# Altium footprint library Header_127.PcbLib: 60 footprints (part 2 of 6)
Each footprint in its own frame and in the unit in brackets; x right, y up, seen from the top. Pads: shape width x height; smd on the part's side, far side on the other; paste and mask are expansions set on the pad; w line width, h text height; cw(c..) or ccw(c..) is an arc to the next point about the centre after c.
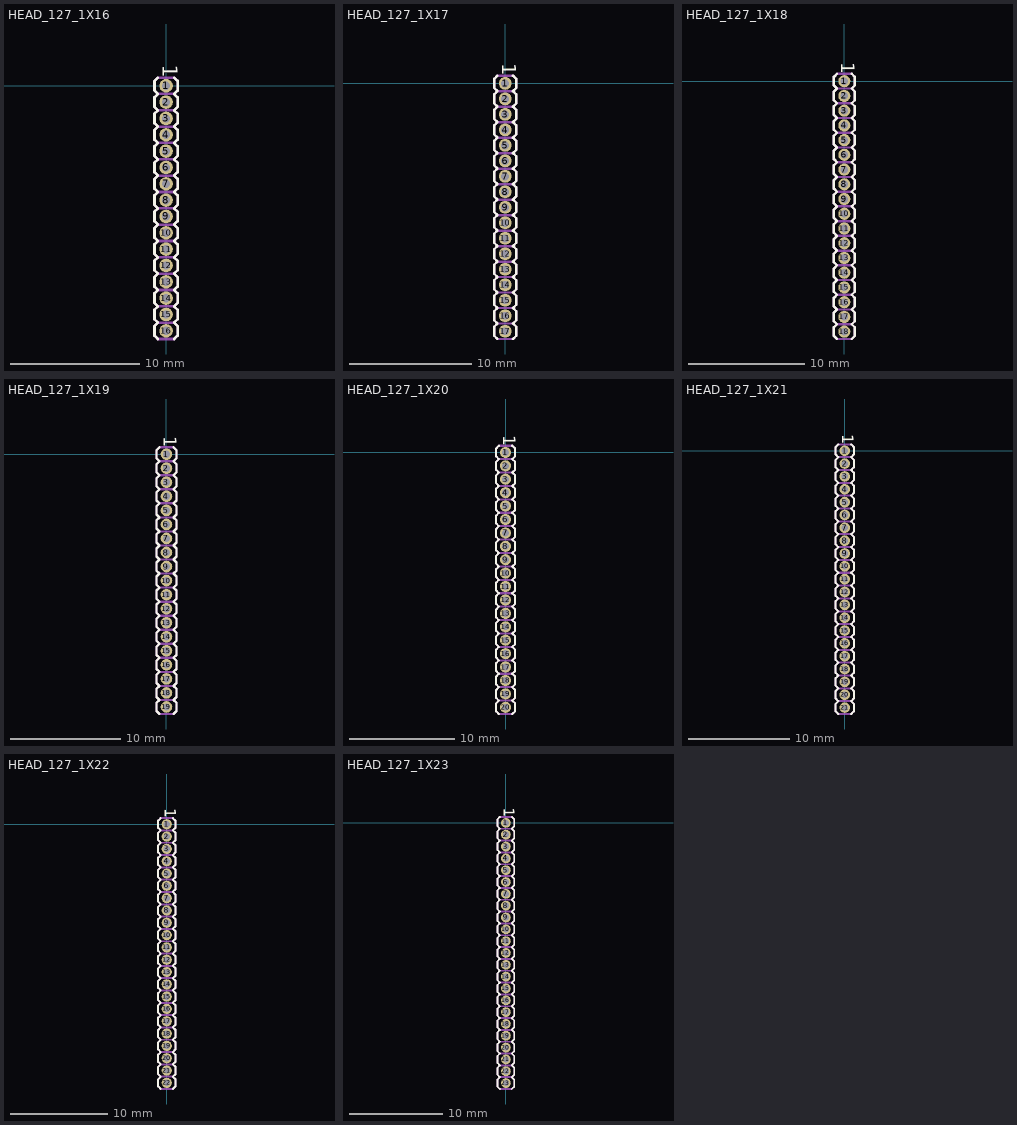
[diagram p1: the footprints below, top view; thin cyan lines are the x and y axes]

## HEAD_127_1X16 [mm] "Header 1.27mm 1x16"
pads (16):
  round 1.05 hole 0.65: 1(0,0) 2(0,-1.27) 3(0,-2.54) 4(0,-3.81) 5(0,-5.08) 6(0,-6.35) 7(0,-7.62) 8(0,-8.89) 9(0,-10.16) 10(0,-11.43) 11(0,-12.7) 12(0,-13.97) 13(0,-15.24) 14(0,-16.51) 15(0,-17.78) 16(0,-19.05)
Top Overlay:
  lines w0.2: -0.635,-19.685 -0.9,-19.42 -0.9,-18.68 -0.635,-18.415 -0.9,-18.15 -0.9,-17.41 -0.635,-17.145 -0.9,-16.88 -0.9,-16.14 -0.635,-15.875 -0.9,-15.61 -0.9,-14.87 -0.635,-14.605 -0.9,-14.34 -0.9,-13.6 -0.635,-13.335 -0.9,-13.07 -0.9,-12.33 -0.635,-12.065 -0.9,-11.8 -0.9,-11.06 -0.635,-10.795 -0.9,-10.53 -0.9,-9.79 -0.635,-9.525 -0.9,-9.26 -0.9,-8.52 -0.635,-8.255 -0.9,-7.99 -0.9,-7.25 -0.635,-6.985 -0.9,-6.72 -0.9,-5.98 -0.635,-5.715 -0.9,-5.45 -0.9,-4.71 -0.635,-4.445 -0.9,-4.18 -0.9,-3.44 -0.635,-3.175 -0.9,-2.91 -0.9,-2.17 -0.635,-1.905 -0.9,-1.64 -0.9,-0.9 -0.635,-0.635 -0.9,-0.37 -0.9,0.37 -0.635,0.635 ; 0.635,-19.685 0.9,-19.42 0.9,-18.68 0.635,-18.415 0.9,-18.15 0.9,-17.41 0.635,-17.145 0.9,-16.88 0.9,-16.14 0.635,-15.875 0.9,-15.61 0.9,-14.87 0.635,-14.605 0.9,-14.34 0.9,-13.6 0.635,-13.335 0.9,-13.07 0.9,-12.33 0.635,-12.065 0.9,-11.8 0.9,-11.06 0.635,-10.795 0.9,-10.53 0.9,-9.79 0.635,-9.525 0.9,-9.26 0.9,-8.52 0.635,-8.255 0.9,-7.99 0.9,-7.25 0.635,-6.985 0.9,-6.72 0.9,-5.98 0.635,-5.715 0.9,-5.45 0.9,-4.71 0.635,-4.445 0.9,-4.18 0.9,-3.44 0.635,-3.175 0.9,-2.91 0.9,-2.17 0.635,-1.905 0.9,-1.64 0.9,-0.9 0.635,-0.635 0.9,-0.37 0.9,0.37 0.635,0.635
  text "1" at -0.642,1.636 h2
Bottom Overlay:
  text "1" at -0.642,0.864 h2
Top Assembly:
  lines w0.2: -0.635,-18.415 -0.9,-18.68 -0.9,-19.42 -0.635,-19.685 0.635,-19.685 0.9,-19.42 0.9,-18.68 0.635,-18.415 ; -0.635,-18.415 -0.9,-18.15 -0.9,-17.41 -0.635,-17.145 ; -0.635,-18.415 0.635,-18.415 ; -0.635,-17.145 -0.9,-16.88 -0.9,-16.14 -0.635,-15.875 ; -0.635,-17.145 0.635,-17.145 ; -0.635,-15.875 -0.9,-15.61 -0.9,-14.87 -0.635,-14.605 ; -0.635,-15.875 0.635,-15.875 ; -0.635,-14.605 -0.9,-14.34 -0.9,-13.6 -0.635,-13.335 ; -0.635,-14.605 0.635,-14.605 ; -0.635,-13.335 -0.9,-13.07 -0.9,-12.33 -0.635,-12.065 ; -0.635,-13.335 0.635,-13.335 ; -0.635,-12.065 -0.9,-11.8 -0.9,-11.06 -0.635,-10.795 ; -0.635,-12.065 0.635,-12.065 ; -0.635,-10.795 -0.9,-10.53 -0.9,-9.79 -0.635,-9.525 ; -0.635,-10.795 0.635,-10.795 ; -0.635,-9.525 -0.9,-9.26 -0.9,-8.52 -0.635,-8.255 ; -0.635,-9.525 0.635,-9.525 ; -0.635,-8.255 0.635,-8.255 ; -0.635,-8.255 -0.9,-7.99 -0.9,-7.25 -0.635,-6.985 ; -0.635,-8.255 0.635,-8.255 ; -0.635,-6.985 0.635,-6.985 ; -0.635,-6.985 -0.9,-6.72 -0.9,-5.98 -0.635,-5.715 ; -0.635,-6.985 0.635,-6.985 ; -0.635,-5.715 0.635,-5.715 ; -0.635,-5.715 -0.9,-5.45 -0.9,-4.71 -0.635,-4.445 ; -0.635,-5.715 0.635,-5.715 ; -0.635,-4.445 0.635,-4.445 ; -0.635,-4.445 -0.9,-4.18 -0.9,-3.44 -0.635,-3.175 ; -0.635,-4.445 0.635,-4.445 ; -0.635,-3.175 0.635,-3.175 ; -0.635,-3.175 -0.9,-2.91 -0.9,-2.17 -0.635,-1.905 ; -0.635,-3.175 0.635,-3.175 ; -0.635,-1.905 0.635,-1.905 ; -0.635,-1.905 -0.9,-1.64 -0.9,-0.9 -0.635,-0.635 ; -0.635,-1.905 0.635,-1.905 ; -0.635,-0.635 0.635,-0.635 ; -0.635,-0.635 -0.9,-0.37 -0.9,0.37 -0.635,0.635 0.635,0.635 0.9,0.37 0.9,-0.37 0.635,-0.635 ; -0.635,-0.635 0.635,-0.635 ; 0.635,-18.415 0.9,-18.15 0.9,-17.41 0.635,-17.145 ; 0.635,-17.145 0.9,-16.88 0.9,-16.14 0.635,-15.875 ; 0.635,-15.875 0.9,-15.61 0.9,-14.87 0.635,-14.605 ; 0.635,-14.605 0.9,-14.34 0.9,-13.6 0.635,-13.335 ; 0.635,-13.335 0.9,-13.07 0.9,-12.33 0.635,-12.065 ; 0.635,-12.065 0.9,-11.8 0.9,-11.06 0.635,-10.795 ; 0.635,-10.795 0.9,-10.53 0.9,-9.79 0.635,-9.525 ; 0.635,-9.525 0.9,-9.26 0.9,-8.52 0.635,-8.255 ; 0.635,-8.255 0.9,-7.99 0.9,-7.25 0.635,-6.985 ; 0.635,-6.985 0.9,-6.72 0.9,-5.98 0.635,-5.715 ; 0.635,-5.715 0.9,-5.45 0.9,-4.71 0.635,-4.445 ; 0.635,-4.445 0.9,-4.18 0.9,-3.44 0.635,-3.175 ; 0.635,-3.175 0.9,-2.91 0.9,-2.17 0.635,-1.905 ; 0.635,-1.905 0.9,-1.64 0.9,-0.9 0.635,-0.635
3D body: height 2, standoff 0, extent -0.9,-19.685 0.9,-18.415
3D body: height 10, standoff -3, extent -0.2,-19.25 0.2,-18.85
3D body: height 2, standoff 0, extent -0.9,-18.415 0.9,-17.145
3D body: height 10, standoff -3, extent -0.2,-17.98 0.2,-17.58
3D body: height 2, standoff 0, extent -0.9,-17.145 0.9,-15.875
3D body: height 10, standoff -3, extent -0.2,-16.71 0.2,-16.31
3D body: height 2, standoff 0, extent -0.9,-15.875 0.9,-14.605
3D body: height 10, standoff -3, extent -0.2,-15.44 0.2,-15.04
3D body: height 2, standoff 0, extent -0.9,-14.605 0.9,-13.335
3D body: height 10, standoff -3, extent -0.2,-14.17 0.2,-13.77
3D body: height 2, standoff 0, extent -0.9,-13.335 0.9,-12.065
3D body: height 10, standoff -3, extent -0.2,-12.9 0.2,-12.5
3D body: height 2, standoff 0, extent -0.9,-12.065 0.9,-10.795
3D body: height 10, standoff -3, extent -0.2,-11.63 0.2,-11.23
3D body: height 10, standoff -3, extent -0.2,-0.2 0.2,0.2
3D body: height 2, standoff 0, extent -0.9,-0.635 0.9,0.635
3D body: height 10, standoff -3, extent -0.2,-1.47 0.2,-1.07
3D body: height 2, standoff 0, extent -0.9,-1.905 0.9,-0.635
3D body: height 10, standoff -3, extent -0.2,-2.74 0.2,-2.34
3D body: height 2, standoff 0, extent -0.9,-3.175 0.9,-1.905
3D body: height 10, standoff -3, extent -0.2,-4.01 0.2,-3.61
3D body: height 2, standoff 0, extent -0.9,-4.445 0.9,-3.175
3D body: height 10, standoff -3, extent -0.2,-5.28 0.2,-4.88
3D body: height 2, standoff 0, extent -0.9,-5.715 0.9,-4.445
3D body: height 10, standoff -3, extent -0.2,-6.55 0.2,-6.15
3D body: height 2, standoff 0, extent -0.9,-6.985 0.9,-5.715
3D body: height 10, standoff -3, extent -0.2,-7.82 0.2,-7.42
3D body: height 2, standoff 0, extent -0.9,-8.255 0.9,-6.985
3D body: height 2, standoff 0, extent -0.9,-9.525 0.9,-8.255
3D body: height 10, standoff -3, extent -0.2,-9.09 0.2,-8.69
3D body: height 2, standoff 0, extent -0.9,-10.795 0.9,-9.525
3D body: height 10, standoff -3, extent -0.2,-10.36 0.2,-9.96

## HEAD_127_1X17 [mm] "Header 1.27mm 1x17"
pads (17):
  round 1.05 hole 0.65: 1(0,0) 2(0,-1.27) 3(0,-2.54) 4(0,-3.81) 5(0,-5.08) 6(0,-6.35) 7(0,-7.62) 8(0,-8.89) 9(0,-10.16) 10(0,-11.43) 11(0,-12.7) 12(0,-13.97) 13(0,-15.24) 14(0,-16.51) 15(0,-17.78) 16(0,-19.05) 17(0,-20.32)
Top Overlay:
  lines w0.2: -0.635,-20.955 -0.9,-20.69 -0.9,-19.95 -0.635,-19.685 -0.9,-19.42 -0.9,-18.68 -0.635,-18.415 -0.9,-18.15 -0.9,-17.41 -0.635,-17.145 -0.9,-16.88 -0.9,-16.14 -0.635,-15.875 -0.9,-15.61 -0.9,-14.87 -0.635,-14.605 -0.9,-14.34 -0.9,-13.6 -0.635,-13.335 -0.9,-13.07 -0.9,-12.33 -0.635,-12.065 -0.9,-11.8 -0.9,-11.06 -0.635,-10.795 -0.9,-10.53 -0.9,-9.79 -0.635,-9.525 -0.9,-9.26 -0.9,-8.52 -0.635,-8.255 -0.9,-7.99 -0.9,-7.25 -0.635,-6.985 -0.9,-6.72 -0.9,-5.98 -0.635,-5.715 -0.9,-5.45 -0.9,-4.71 -0.635,-4.445 -0.9,-4.18 -0.9,-3.44 -0.635,-3.175 -0.9,-2.91 -0.9,-2.17 -0.635,-1.905 -0.9,-1.64 -0.9,-0.9 -0.635,-0.635 -0.9,-0.37 -0.9,0.37 -0.635,0.635 ; 0.635,-20.955 0.9,-20.69 0.9,-19.95 0.635,-19.685 0.9,-19.42 0.9,-18.68 0.635,-18.415 0.9,-18.15 0.9,-17.41 0.635,-17.145 0.9,-16.88 0.9,-16.14 0.635,-15.875 0.9,-15.61 0.9,-14.87 0.635,-14.605 0.9,-14.34 0.9,-13.6 0.635,-13.335 0.9,-13.07 0.9,-12.33 0.635,-12.065 0.9,-11.8 0.9,-11.06 0.635,-10.795 0.9,-10.53 0.9,-9.79 0.635,-9.525 0.9,-9.26 0.9,-8.52 0.635,-8.255 0.9,-7.99 0.9,-7.25 0.635,-6.985 0.9,-6.72 0.9,-5.98 0.635,-5.715 0.9,-5.45 0.9,-4.71 0.635,-4.445 0.9,-4.18 0.9,-3.44 0.635,-3.175 0.9,-2.91 0.9,-2.17 0.635,-1.905 0.9,-1.64 0.9,-0.9 0.635,-0.635 0.9,-0.37 0.9,0.37 0.635,0.635
  text "1" at -0.642,1.636 h2
Bottom Overlay:
  text "1" at -0.642,0.864 h2
Top Assembly:
  lines w0.2: -0.635,-19.685 -0.9,-19.95 -0.9,-20.69 -0.635,-20.955 0.635,-20.955 0.9,-20.69 0.9,-19.95 0.635,-19.685 ; -0.635,-19.685 -0.9,-19.42 -0.9,-18.68 -0.635,-18.415 ; -0.635,-19.685 0.635,-19.685 ; -0.635,-18.415 -0.9,-18.15 -0.9,-17.41 -0.635,-17.145 ; -0.635,-18.415 0.635,-18.415 ; -0.635,-17.145 -0.9,-16.88 -0.9,-16.14 -0.635,-15.875 ; -0.635,-17.145 0.635,-17.145 ; -0.635,-15.875 -0.9,-15.61 -0.9,-14.87 -0.635,-14.605 ; -0.635,-15.875 0.635,-15.875 ; -0.635,-14.605 -0.9,-14.34 -0.9,-13.6 -0.635,-13.335 ; -0.635,-14.605 0.635,-14.605 ; -0.635,-13.335 -0.9,-13.07 -0.9,-12.33 -0.635,-12.065 ; -0.635,-13.335 0.635,-13.335 ; -0.635,-12.065 -0.9,-11.8 -0.9,-11.06 -0.635,-10.795 ; -0.635,-12.065 0.635,-12.065 ; -0.635,-10.795 -0.9,-10.53 -0.9,-9.79 -0.635,-9.525 ; -0.635,-10.795 0.635,-10.795 ; -0.635,-9.525 -0.9,-9.26 -0.9,-8.52 -0.635,-8.255 ; -0.635,-9.525 0.635,-9.525 ; -0.635,-8.255 0.635,-8.255 ; -0.635,-8.255 -0.9,-7.99 -0.9,-7.25 -0.635,-6.985 ; -0.635,-8.255 0.635,-8.255 ; -0.635,-6.985 0.635,-6.985 ; -0.635,-6.985 -0.9,-6.72 -0.9,-5.98 -0.635,-5.715 ; -0.635,-6.985 0.635,-6.985 ; -0.635,-5.715 0.635,-5.715 ; -0.635,-5.715 -0.9,-5.45 -0.9,-4.71 -0.635,-4.445 ; -0.635,-5.715 0.635,-5.715 ; -0.635,-4.445 0.635,-4.445 ; -0.635,-4.445 -0.9,-4.18 -0.9,-3.44 -0.635,-3.175 ; -0.635,-4.445 0.635,-4.445 ; -0.635,-3.175 0.635,-3.175 ; -0.635,-3.175 -0.9,-2.91 -0.9,-2.17 -0.635,-1.905 ; -0.635,-3.175 0.635,-3.175 ; -0.635,-1.905 0.635,-1.905 ; -0.635,-1.905 -0.9,-1.64 -0.9,-0.9 -0.635,-0.635 ; -0.635,-1.905 0.635,-1.905 ; -0.635,-0.635 0.635,-0.635 ; -0.635,-0.635 -0.9,-0.37 -0.9,0.37 -0.635,0.635 0.635,0.635 0.9,0.37 0.9,-0.37 0.635,-0.635 ; -0.635,-0.635 0.635,-0.635 ; 0.635,-19.685 0.9,-19.42 0.9,-18.68 0.635,-18.415 ; 0.635,-18.415 0.9,-18.15 0.9,-17.41 0.635,-17.145 ; 0.635,-17.145 0.9,-16.88 0.9,-16.14 0.635,-15.875 ; 0.635,-15.875 0.9,-15.61 0.9,-14.87 0.635,-14.605 ; 0.635,-14.605 0.9,-14.34 0.9,-13.6 0.635,-13.335 ; 0.635,-13.335 0.9,-13.07 0.9,-12.33 0.635,-12.065 ; 0.635,-12.065 0.9,-11.8 0.9,-11.06 0.635,-10.795 ; 0.635,-10.795 0.9,-10.53 0.9,-9.79 0.635,-9.525 ; 0.635,-9.525 0.9,-9.26 0.9,-8.52 0.635,-8.255 ; 0.635,-8.255 0.9,-7.99 0.9,-7.25 0.635,-6.985 ; 0.635,-6.985 0.9,-6.72 0.9,-5.98 0.635,-5.715 ; 0.635,-5.715 0.9,-5.45 0.9,-4.71 0.635,-4.445 ; 0.635,-4.445 0.9,-4.18 0.9,-3.44 0.635,-3.175 ; 0.635,-3.175 0.9,-2.91 0.9,-2.17 0.635,-1.905 ; 0.635,-1.905 0.9,-1.64 0.9,-0.9 0.635,-0.635
3D body: height 2, standoff 0, extent -0.9,-20.955 0.9,-19.685
3D body: height 10, standoff -3, extent -0.2,-20.52 0.2,-20.12
3D body: height 2, standoff 0, extent -0.9,-19.685 0.9,-18.415
3D body: height 10, standoff -3, extent -0.2,-19.25 0.2,-18.85
3D body: height 2, standoff 0, extent -0.9,-18.415 0.9,-17.145
3D body: height 10, standoff -3, extent -0.2,-17.98 0.2,-17.58
3D body: height 2, standoff 0, extent -0.9,-17.145 0.9,-15.875
3D body: height 10, standoff -3, extent -0.2,-16.71 0.2,-16.31
3D body: height 2, standoff 0, extent -0.9,-15.875 0.9,-14.605
3D body: height 10, standoff -3, extent -0.2,-15.44 0.2,-15.04
3D body: height 2, standoff 0, extent -0.9,-14.605 0.9,-13.335
3D body: height 10, standoff -3, extent -0.2,-14.17 0.2,-13.77
3D body: height 2, standoff 0, extent -0.9,-13.335 0.9,-12.065
3D body: height 10, standoff -3, extent -0.2,-12.9 0.2,-12.5
3D body: height 2, standoff 0, extent -0.9,-12.065 0.9,-10.795
3D body: height 10, standoff -3, extent -0.2,-11.63 0.2,-11.23
3D body: height 10, standoff -3, extent -0.2,-0.2 0.2,0.2
3D body: height 2, standoff 0, extent -0.9,-0.635 0.9,0.635
3D body: height 10, standoff -3, extent -0.2,-1.47 0.2,-1.07
3D body: height 2, standoff 0, extent -0.9,-1.905 0.9,-0.635
3D body: height 10, standoff -3, extent -0.2,-2.74 0.2,-2.34
3D body: height 2, standoff 0, extent -0.9,-3.175 0.9,-1.905
3D body: height 10, standoff -3, extent -0.2,-4.01 0.2,-3.61
3D body: height 2, standoff 0, extent -0.9,-4.445 0.9,-3.175
3D body: height 10, standoff -3, extent -0.2,-5.28 0.2,-4.88
3D body: height 2, standoff 0, extent -0.9,-5.715 0.9,-4.445
3D body: height 10, standoff -3, extent -0.2,-6.55 0.2,-6.15
3D body: height 2, standoff 0, extent -0.9,-6.985 0.9,-5.715
3D body: height 10, standoff -3, extent -0.2,-7.82 0.2,-7.42
3D body: height 2, standoff 0, extent -0.9,-8.255 0.9,-6.985
3D body: height 2, standoff 0, extent -0.9,-9.525 0.9,-8.255
3D body: height 10, standoff -3, extent -0.2,-9.09 0.2,-8.69
3D body: height 2, standoff 0, extent -0.9,-10.795 0.9,-9.525
3D body: height 10, standoff -3, extent -0.2,-10.36 0.2,-9.96

## HEAD_127_1X18 [mm] "Header 1.27mm 1x18"
pads (18):
  round 1.05 hole 0.65: 1(0,0) 2(0,-1.27) 3(0,-2.54) 4(0,-3.81) 5(0,-5.08) 6(0,-6.35) 7(0,-7.62) 8(0,-8.89) 9(0,-10.16) 10(0,-11.43) 11(0,-12.7) 12(0,-13.97) 13(0,-15.24) 14(0,-16.51) 15(0,-17.78) 16(0,-19.05) 17(0,-20.32) 18(0,-21.59)
Top Overlay:
  lines w0.2: -0.635,-22.225 -0.9,-21.96 -0.9,-21.22 -0.635,-20.955 -0.9,-20.69 -0.9,-19.95 -0.635,-19.685 -0.9,-19.42 -0.9,-18.68 -0.635,-18.415 -0.9,-18.15 -0.9,-17.41 -0.635,-17.145 -0.9,-16.88 -0.9,-16.14 -0.635,-15.875 -0.9,-15.61 -0.9,-14.87 -0.635,-14.605 -0.9,-14.34 -0.9,-13.6 -0.635,-13.335 -0.9,-13.07 -0.9,-12.33 -0.635,-12.065 -0.9,-11.8 -0.9,-11.06 -0.635,-10.795 -0.9,-10.53 -0.9,-9.79 -0.635,-9.525 -0.9,-9.26 -0.9,-8.52 -0.635,-8.255 -0.9,-7.99 -0.9,-7.25 -0.635,-6.985 -0.9,-6.72 -0.9,-5.98 -0.635,-5.715 -0.9,-5.45 -0.9,-4.71 -0.635,-4.445 -0.9,-4.18 -0.9,-3.44 -0.635,-3.175 -0.9,-2.91 -0.9,-2.17 -0.635,-1.905 -0.9,-1.64 -0.9,-0.9 -0.635,-0.635 -0.9,-0.37 -0.9,0.37 -0.635,0.635 ; 0.635,-22.225 0.9,-21.96 0.9,-21.22 0.635,-20.955 0.9,-20.69 0.9,-19.95 0.635,-19.685 0.9,-19.42 0.9,-18.68 0.635,-18.415 0.9,-18.15 0.9,-17.41 0.635,-17.145 0.9,-16.88 0.9,-16.14 0.635,-15.875 0.9,-15.61 0.9,-14.87 0.635,-14.605 0.9,-14.34 0.9,-13.6 0.635,-13.335 0.9,-13.07 0.9,-12.33 0.635,-12.065 0.9,-11.8 0.9,-11.06 0.635,-10.795 0.9,-10.53 0.9,-9.79 0.635,-9.525 0.9,-9.26 0.9,-8.52 0.635,-8.255 0.9,-7.99 0.9,-7.25 0.635,-6.985 0.9,-6.72 0.9,-5.98 0.635,-5.715 0.9,-5.45 0.9,-4.71 0.635,-4.445 0.9,-4.18 0.9,-3.44 0.635,-3.175 0.9,-2.91 0.9,-2.17 0.635,-1.905 0.9,-1.64 0.9,-0.9 0.635,-0.635 0.9,-0.37 0.9,0.37 0.635,0.635
  text "1" at -0.642,1.636 h2
Bottom Overlay:
  text "1" at -0.642,0.864 h2
Top Assembly:
  lines w0.2: -0.635,-20.955 -0.9,-21.22 -0.9,-21.96 -0.635,-22.225 0.635,-22.225 0.9,-21.96 0.9,-21.22 0.635,-20.955 ; -0.635,-20.955 -0.9,-20.69 -0.9,-19.95 -0.635,-19.685 ; -0.635,-20.955 0.635,-20.955 ; -0.635,-19.685 -0.9,-19.42 -0.9,-18.68 -0.635,-18.415 ; -0.635,-19.685 0.635,-19.685 ; -0.635,-18.415 -0.9,-18.15 -0.9,-17.41 -0.635,-17.145 ; -0.635,-18.415 0.635,-18.415 ; -0.635,-17.145 -0.9,-16.88 -0.9,-16.14 -0.635,-15.875 ; -0.635,-17.145 0.635,-17.145 ; -0.635,-15.875 -0.9,-15.61 -0.9,-14.87 -0.635,-14.605 ; -0.635,-15.875 0.635,-15.875 ; -0.635,-14.605 -0.9,-14.34 -0.9,-13.6 -0.635,-13.335 ; -0.635,-14.605 0.635,-14.605 ; -0.635,-13.335 -0.9,-13.07 -0.9,-12.33 -0.635,-12.065 ; -0.635,-13.335 0.635,-13.335 ; -0.635,-12.065 -0.9,-11.8 -0.9,-11.06 -0.635,-10.795 ; -0.635,-12.065 0.635,-12.065 ; -0.635,-10.795 -0.9,-10.53 -0.9,-9.79 -0.635,-9.525 ; -0.635,-10.795 0.635,-10.795 ; -0.635,-9.525 -0.9,-9.26 -0.9,-8.52 -0.635,-8.255 ; -0.635,-9.525 0.635,-9.525 ; -0.635,-8.255 0.635,-8.255 ; -0.635,-8.255 -0.9,-7.99 -0.9,-7.25 -0.635,-6.985 ; -0.635,-8.255 0.635,-8.255 ; -0.635,-6.985 0.635,-6.985 ; -0.635,-6.985 -0.9,-6.72 -0.9,-5.98 -0.635,-5.715 ; -0.635,-6.985 0.635,-6.985 ; -0.635,-5.715 0.635,-5.715 ; -0.635,-5.715 -0.9,-5.45 -0.9,-4.71 -0.635,-4.445 ; -0.635,-5.715 0.635,-5.715 ; -0.635,-4.445 0.635,-4.445 ; -0.635,-4.445 -0.9,-4.18 -0.9,-3.44 -0.635,-3.175 ; -0.635,-4.445 0.635,-4.445 ; -0.635,-3.175 0.635,-3.175 ; -0.635,-3.175 -0.9,-2.91 -0.9,-2.17 -0.635,-1.905 ; -0.635,-3.175 0.635,-3.175 ; -0.635,-1.905 0.635,-1.905 ; -0.635,-1.905 -0.9,-1.64 -0.9,-0.9 -0.635,-0.635 ; -0.635,-1.905 0.635,-1.905 ; -0.635,-0.635 0.635,-0.635 ; -0.635,-0.635 -0.9,-0.37 -0.9,0.37 -0.635,0.635 0.635,0.635 0.9,0.37 0.9,-0.37 0.635,-0.635 ; -0.635,-0.635 0.635,-0.635 ; 0.635,-20.955 0.9,-20.69 0.9,-19.95 0.635,-19.685 ; 0.635,-19.685 0.9,-19.42 0.9,-18.68 0.635,-18.415 ; 0.635,-18.415 0.9,-18.15 0.9,-17.41 0.635,-17.145 ; 0.635,-17.145 0.9,-16.88 0.9,-16.14 0.635,-15.875 ; 0.635,-15.875 0.9,-15.61 0.9,-14.87 0.635,-14.605 ; 0.635,-14.605 0.9,-14.34 0.9,-13.6 0.635,-13.335 ; 0.635,-13.335 0.9,-13.07 0.9,-12.33 0.635,-12.065 ; 0.635,-12.065 0.9,-11.8 0.9,-11.06 0.635,-10.795 ; 0.635,-10.795 0.9,-10.53 0.9,-9.79 0.635,-9.525 ; 0.635,-9.525 0.9,-9.26 0.9,-8.52 0.635,-8.255 ; 0.635,-8.255 0.9,-7.99 0.9,-7.25 0.635,-6.985 ; 0.635,-6.985 0.9,-6.72 0.9,-5.98 0.635,-5.715 ; 0.635,-5.715 0.9,-5.45 0.9,-4.71 0.635,-4.445 ; 0.635,-4.445 0.9,-4.18 0.9,-3.44 0.635,-3.175 ; 0.635,-3.175 0.9,-2.91 0.9,-2.17 0.635,-1.905 ; 0.635,-1.905 0.9,-1.64 0.9,-0.9 0.635,-0.635
3D body: height 2, standoff 0, extent -0.9,-22.225 0.9,-20.955
3D body: height 10, standoff -3, extent -0.2,-21.79 0.2,-21.39
3D body: height 2, standoff 0, extent -0.9,-20.955 0.9,-19.685
3D body: height 10, standoff -3, extent -0.2,-20.52 0.2,-20.12
3D body: height 2, standoff 0, extent -0.9,-19.685 0.9,-18.415
3D body: height 10, standoff -3, extent -0.2,-19.25 0.2,-18.85
3D body: height 2, standoff 0, extent -0.9,-18.415 0.9,-17.145
3D body: height 10, standoff -3, extent -0.2,-17.98 0.2,-17.58
3D body: height 2, standoff 0, extent -0.9,-17.145 0.9,-15.875
3D body: height 10, standoff -3, extent -0.2,-16.71 0.2,-16.31
3D body: height 2, standoff 0, extent -0.9,-15.875 0.9,-14.605
3D body: height 10, standoff -3, extent -0.2,-15.44 0.2,-15.04
3D body: height 2, standoff 0, extent -0.9,-14.605 0.9,-13.335
3D body: height 10, standoff -3, extent -0.2,-14.17 0.2,-13.77
3D body: height 2, standoff 0, extent -0.9,-13.335 0.9,-12.065
3D body: height 10, standoff -3, extent -0.2,-12.9 0.2,-12.5
3D body: height 2, standoff 0, extent -0.9,-12.065 0.9,-10.795
3D body: height 10, standoff -3, extent -0.2,-11.63 0.2,-11.23
3D body: height 10, standoff -3, extent -0.2,-0.2 0.2,0.2
3D body: height 2, standoff 0, extent -0.9,-0.635 0.9,0.635
3D body: height 10, standoff -3, extent -0.2,-1.47 0.2,-1.07
3D body: height 2, standoff 0, extent -0.9,-1.905 0.9,-0.635
3D body: height 10, standoff -3, extent -0.2,-2.74 0.2,-2.34
3D body: height 2, standoff 0, extent -0.9,-3.175 0.9,-1.905
3D body: height 10, standoff -3, extent -0.2,-4.01 0.2,-3.61
3D body: height 2, standoff 0, extent -0.9,-4.445 0.9,-3.175
3D body: height 10, standoff -3, extent -0.2,-5.28 0.2,-4.88
3D body: height 2, standoff 0, extent -0.9,-5.715 0.9,-4.445
3D body: height 10, standoff -3, extent -0.2,-6.55 0.2,-6.15
3D body: height 2, standoff 0, extent -0.9,-6.985 0.9,-5.715
3D body: height 10, standoff -3, extent -0.2,-7.82 0.2,-7.42
3D body: height 2, standoff 0, extent -0.9,-8.255 0.9,-6.985
3D body: height 2, standoff 0, extent -0.9,-9.525 0.9,-8.255
3D body: height 10, standoff -3, extent -0.2,-9.09 0.2,-8.69
3D body: height 2, standoff 0, extent -0.9,-10.795 0.9,-9.525
3D body: height 10, standoff -3, extent -0.2,-10.36 0.2,-9.96

## HEAD_127_1X19 [mm] "Header 1.27mm 1x19"
pads (19):
  round 1.05 hole 0.65: 1(0,0) 2(0,-1.27) 3(0,-2.54) 4(0,-3.81) 5(0,-5.08) 6(0,-6.35) 7(0,-7.62) 8(0,-8.89) 9(0,-10.16) 10(0,-11.43) 11(0,-12.7) 12(0,-13.97) 13(0,-15.24) 14(0,-16.51) 15(0,-17.78) 16(0,-19.05) 17(0,-20.32) 18(0,-21.59) 19(0,-22.86)
Top Overlay:
  lines w0.2: -0.635,-23.495 -0.9,-23.23 -0.9,-22.49 -0.635,-22.225 -0.9,-21.96 -0.9,-21.22 -0.635,-20.955 -0.9,-20.69 -0.9,-19.95 -0.635,-19.685 -0.9,-19.42 -0.9,-18.68 -0.635,-18.415 -0.9,-18.15 -0.9,-17.41 -0.635,-17.145 -0.9,-16.88 -0.9,-16.14 -0.635,-15.875 -0.9,-15.61 -0.9,-14.87 -0.635,-14.605 -0.9,-14.34 -0.9,-13.6 -0.635,-13.335 -0.9,-13.07 -0.9,-12.33 -0.635,-12.065 -0.9,-11.8 -0.9,-11.06 -0.635,-10.795 -0.9,-10.53 -0.9,-9.79 -0.635,-9.525 -0.9,-9.26 -0.9,-8.52 -0.635,-8.255 -0.9,-7.99 -0.9,-7.25 -0.635,-6.985 -0.9,-6.72 -0.9,-5.98 -0.635,-5.715 -0.9,-5.45 -0.9,-4.71 -0.635,-4.445 -0.9,-4.18 -0.9,-3.44 -0.635,-3.175 -0.9,-2.91 -0.9,-2.17 -0.635,-1.905 -0.9,-1.64 -0.9,-0.9 -0.635,-0.635 -0.9,-0.37 -0.9,0.37 -0.635,0.635 ; 0.635,-23.495 0.9,-23.23 0.9,-22.49 0.635,-22.225 0.9,-21.96 0.9,-21.22 0.635,-20.955 0.9,-20.69 0.9,-19.95 0.635,-19.685 0.9,-19.42 0.9,-18.68 0.635,-18.415 0.9,-18.15 0.9,-17.41 0.635,-17.145 0.9,-16.88 0.9,-16.14 0.635,-15.875 0.9,-15.61 0.9,-14.87 0.635,-14.605 0.9,-14.34 0.9,-13.6 0.635,-13.335 0.9,-13.07 0.9,-12.33 0.635,-12.065 0.9,-11.8 0.9,-11.06 0.635,-10.795 0.9,-10.53 0.9,-9.79 0.635,-9.525 0.9,-9.26 0.9,-8.52 0.635,-8.255 0.9,-7.99 0.9,-7.25 0.635,-6.985 0.9,-6.72 0.9,-5.98 0.635,-5.715 0.9,-5.45 0.9,-4.71 0.635,-4.445 0.9,-4.18 0.9,-3.44 0.635,-3.175 0.9,-2.91 0.9,-2.17 0.635,-1.905 0.9,-1.64 0.9,-0.9 0.635,-0.635 0.9,-0.37 0.9,0.37 0.635,0.635
  text "1" at -0.642,1.636 h2
Bottom Overlay:
  text "1" at -0.642,0.864 h2
Top Assembly:
  lines w0.2: -0.635,-22.225 -0.9,-22.49 -0.9,-23.23 -0.635,-23.495 0.635,-23.495 0.9,-23.23 0.9,-22.49 0.635,-22.225 ; -0.635,-22.225 -0.9,-21.96 -0.9,-21.22 -0.635,-20.955 ; -0.635,-22.225 0.635,-22.225 ; -0.635,-20.955 -0.9,-20.69 -0.9,-19.95 -0.635,-19.685 ; -0.635,-20.955 0.635,-20.955 ; -0.635,-19.685 -0.9,-19.42 -0.9,-18.68 -0.635,-18.415 ; -0.635,-19.685 0.635,-19.685 ; -0.635,-18.415 -0.9,-18.15 -0.9,-17.41 -0.635,-17.145 ; -0.635,-18.415 0.635,-18.415 ; -0.635,-17.145 -0.9,-16.88 -0.9,-16.14 -0.635,-15.875 ; -0.635,-17.145 0.635,-17.145 ; -0.635,-15.875 -0.9,-15.61 -0.9,-14.87 -0.635,-14.605 ; -0.635,-15.875 0.635,-15.875 ; -0.635,-14.605 -0.9,-14.34 -0.9,-13.6 -0.635,-13.335 ; -0.635,-14.605 0.635,-14.605 ; -0.635,-13.335 -0.9,-13.07 -0.9,-12.33 -0.635,-12.065 ; -0.635,-13.335 0.635,-13.335 ; -0.635,-12.065 -0.9,-11.8 -0.9,-11.06 -0.635,-10.795 ; -0.635,-12.065 0.635,-12.065 ; -0.635,-10.795 -0.9,-10.53 -0.9,-9.79 -0.635,-9.525 ; -0.635,-10.795 0.635,-10.795 ; -0.635,-9.525 -0.9,-9.26 -0.9,-8.52 -0.635,-8.255 ; -0.635,-9.525 0.635,-9.525 ; -0.635,-8.255 0.635,-8.255 ; -0.635,-8.255 -0.9,-7.99 -0.9,-7.25 -0.635,-6.985 ; -0.635,-8.255 0.635,-8.255 ; -0.635,-6.985 0.635,-6.985 ; -0.635,-6.985 -0.9,-6.72 -0.9,-5.98 -0.635,-5.715 ; -0.635,-6.985 0.635,-6.985 ; -0.635,-5.715 0.635,-5.715 ; -0.635,-5.715 -0.9,-5.45 -0.9,-4.71 -0.635,-4.445 ; -0.635,-5.715 0.635,-5.715 ; -0.635,-4.445 0.635,-4.445 ; -0.635,-4.445 -0.9,-4.18 -0.9,-3.44 -0.635,-3.175 ; -0.635,-4.445 0.635,-4.445 ; -0.635,-3.175 0.635,-3.175 ; -0.635,-3.175 -0.9,-2.91 -0.9,-2.17 -0.635,-1.905 ; -0.635,-3.175 0.635,-3.175 ; -0.635,-1.905 0.635,-1.905 ; -0.635,-1.905 -0.9,-1.64 -0.9,-0.9 -0.635,-0.635 ; -0.635,-1.905 0.635,-1.905 ; -0.635,-0.635 0.635,-0.635 ; -0.635,-0.635 -0.9,-0.37 -0.9,0.37 -0.635,0.635 0.635,0.635 0.9,0.37 0.9,-0.37 0.635,-0.635 ; -0.635,-0.635 0.635,-0.635 ; 0.635,-22.225 0.9,-21.96 0.9,-21.22 0.635,-20.955 ; 0.635,-20.955 0.9,-20.69 0.9,-19.95 0.635,-19.685 ; 0.635,-19.685 0.9,-19.42 0.9,-18.68 0.635,-18.415 ; 0.635,-18.415 0.9,-18.15 0.9,-17.41 0.635,-17.145 ; 0.635,-17.145 0.9,-16.88 0.9,-16.14 0.635,-15.875 ; 0.635,-15.875 0.9,-15.61 0.9,-14.87 0.635,-14.605 ; 0.635,-14.605 0.9,-14.34 0.9,-13.6 0.635,-13.335 ; 0.635,-13.335 0.9,-13.07 0.9,-12.33 0.635,-12.065 ; 0.635,-12.065 0.9,-11.8 0.9,-11.06 0.635,-10.795 ; 0.635,-10.795 0.9,-10.53 0.9,-9.79 0.635,-9.525 ; 0.635,-9.525 0.9,-9.26 0.9,-8.52 0.635,-8.255 ; 0.635,-8.255 0.9,-7.99 0.9,-7.25 0.635,-6.985 ; 0.635,-6.985 0.9,-6.72 0.9,-5.98 0.635,-5.715 ; 0.635,-5.715 0.9,-5.45 0.9,-4.71 0.635,-4.445 ; 0.635,-4.445 0.9,-4.18 0.9,-3.44 0.635,-3.175 ; 0.635,-3.175 0.9,-2.91 0.9,-2.17 0.635,-1.905 ; 0.635,-1.905 0.9,-1.64 0.9,-0.9 0.635,-0.635
3D body: height 2, standoff 0, extent -0.9,-23.495 0.9,-22.225
3D body: height 10, standoff -3, extent -0.2,-23.06 0.2,-22.66
3D body: height 2, standoff 0, extent -0.9,-22.225 0.9,-20.955
3D body: height 10, standoff -3, extent -0.2,-21.79 0.2,-21.39
3D body: height 2, standoff 0, extent -0.9,-20.955 0.9,-19.685
3D body: height 10, standoff -3, extent -0.2,-20.52 0.2,-20.12
3D body: height 2, standoff 0, extent -0.9,-19.685 0.9,-18.415
3D body: height 10, standoff -3, extent -0.2,-19.25 0.2,-18.85
3D body: height 2, standoff 0, extent -0.9,-18.415 0.9,-17.145
3D body: height 10, standoff -3, extent -0.2,-17.98 0.2,-17.58
3D body: height 2, standoff 0, extent -0.9,-17.145 0.9,-15.875
3D body: height 10, standoff -3, extent -0.2,-16.71 0.2,-16.31
3D body: height 2, standoff 0, extent -0.9,-15.875 0.9,-14.605
3D body: height 10, standoff -3, extent -0.2,-15.44 0.2,-15.04
3D body: height 2, standoff 0, extent -0.9,-14.605 0.9,-13.335
3D body: height 10, standoff -3, extent -0.2,-14.17 0.2,-13.77
3D body: height 2, standoff 0, extent -0.9,-13.335 0.9,-12.065
3D body: height 10, standoff -3, extent -0.2,-12.9 0.2,-12.5
3D body: height 2, standoff 0, extent -0.9,-12.065 0.9,-10.795
3D body: height 10, standoff -3, extent -0.2,-11.63 0.2,-11.23
3D body: height 10, standoff -3, extent -0.2,-0.2 0.2,0.2
3D body: height 2, standoff 0, extent -0.9,-0.635 0.9,0.635
3D body: height 10, standoff -3, extent -0.2,-1.47 0.2,-1.07
3D body: height 2, standoff 0, extent -0.9,-1.905 0.9,-0.635
3D body: height 10, standoff -3, extent -0.2,-2.74 0.2,-2.34
3D body: height 2, standoff 0, extent -0.9,-3.175 0.9,-1.905
3D body: height 10, standoff -3, extent -0.2,-4.01 0.2,-3.61
3D body: height 2, standoff 0, extent -0.9,-4.445 0.9,-3.175
3D body: height 10, standoff -3, extent -0.2,-5.28 0.2,-4.88
3D body: height 2, standoff 0, extent -0.9,-5.715 0.9,-4.445
3D body: height 10, standoff -3, extent -0.2,-6.55 0.2,-6.15
3D body: height 2, standoff 0, extent -0.9,-6.985 0.9,-5.715
3D body: height 10, standoff -3, extent -0.2,-7.82 0.2,-7.42
3D body: height 2, standoff 0, extent -0.9,-8.255 0.9,-6.985
3D body: height 2, standoff 0, extent -0.9,-9.525 0.9,-8.255
3D body: height 10, standoff -3, extent -0.2,-9.09 0.2,-8.69
3D body: height 2, standoff 0, extent -0.9,-10.795 0.9,-9.525
3D body: height 10, standoff -3, extent -0.2,-10.36 0.2,-9.96

## HEAD_127_1X20 [mm] "Header 1.27mm 1x20"
pads (20):
  round 1.05 hole 0.65: 1(0,0) 2(0,-1.27) 3(0,-2.54) 4(0,-3.81) 5(0,-5.08) 6(0,-6.35) 7(0,-7.62) 8(0,-8.89) 9(0,-10.16) 10(0,-11.43) 11(0,-12.7) 12(0,-13.97) 13(0,-15.24) 14(0,-16.51) 15(0,-17.78) 16(0,-19.05) 17(0,-20.32) 18(0,-21.59) 19(0,-22.86) 20(0,-24.13)
Top Overlay:
  lines w0.2: -0.635,-24.765 -0.9,-24.5 -0.9,-23.76 -0.635,-23.495 -0.9,-23.23 -0.9,-22.49 -0.635,-22.225 -0.9,-21.96 -0.9,-21.22 -0.635,-20.955 -0.9,-20.69 -0.9,-19.95 -0.635,-19.685 -0.9,-19.42 -0.9,-18.68 -0.635,-18.415 -0.9,-18.15 -0.9,-17.41 -0.635,-17.145 -0.9,-16.88 -0.9,-16.14 -0.635,-15.875 -0.9,-15.61 -0.9,-14.87 -0.635,-14.605 -0.9,-14.34 -0.9,-13.6 -0.635,-13.335 -0.9,-13.07 -0.9,-12.33 -0.635,-12.065 -0.9,-11.8 -0.9,-11.06 -0.635,-10.795 -0.9,-10.53 -0.9,-9.79 -0.635,-9.525 -0.9,-9.26 -0.9,-8.52 -0.635,-8.255 -0.9,-7.99 -0.9,-7.25 -0.635,-6.985 -0.9,-6.72 -0.9,-5.98 -0.635,-5.715 -0.9,-5.45 -0.9,-4.71 -0.635,-4.445 -0.9,-4.18 -0.9,-3.44 -0.635,-3.175 -0.9,-2.91 -0.9,-2.17 -0.635,-1.905 -0.9,-1.64 -0.9,-0.9 -0.635,-0.635 -0.9,-0.37 -0.9,0.37 -0.635,0.635 ; 0.635,-24.765 0.9,-24.5 0.9,-23.76 0.635,-23.495 0.9,-23.23 0.9,-22.49 0.635,-22.225 0.9,-21.96 0.9,-21.22 0.635,-20.955 0.9,-20.69 0.9,-19.95 0.635,-19.685 0.9,-19.42 0.9,-18.68 0.635,-18.415 0.9,-18.15 0.9,-17.41 0.635,-17.145 0.9,-16.88 0.9,-16.14 0.635,-15.875 0.9,-15.61 0.9,-14.87 0.635,-14.605 0.9,-14.34 0.9,-13.6 0.635,-13.335 0.9,-13.07 0.9,-12.33 0.635,-12.065 0.9,-11.8 0.9,-11.06 0.635,-10.795 0.9,-10.53 0.9,-9.79 0.635,-9.525 0.9,-9.26 0.9,-8.52 0.635,-8.255 0.9,-7.99 0.9,-7.25 0.635,-6.985 0.9,-6.72 0.9,-5.98 0.635,-5.715 0.9,-5.45 0.9,-4.71 0.635,-4.445 0.9,-4.18 0.9,-3.44 0.635,-3.175 0.9,-2.91 0.9,-2.17 0.635,-1.905 0.9,-1.64 0.9,-0.9 0.635,-0.635 0.9,-0.37 0.9,0.37 0.635,0.635
  text "1" at -0.642,1.636 h2
Bottom Overlay:
  text "1" at -0.642,0.764 h2
Top Assembly:
  lines w0.2: -0.635,-23.495 -0.9,-23.76 -0.9,-24.5 -0.635,-24.765 0.635,-24.765 0.9,-24.5 0.9,-23.76 0.635,-23.495 ; -0.635,-23.495 -0.9,-23.23 -0.9,-22.49 -0.635,-22.225 ; -0.635,-23.495 0.635,-23.495 ; -0.635,-22.225 -0.9,-21.96 -0.9,-21.22 -0.635,-20.955 ; -0.635,-22.225 0.635,-22.225 ; -0.635,-20.955 -0.9,-20.69 -0.9,-19.95 -0.635,-19.685 ; -0.635,-20.955 0.635,-20.955 ; -0.635,-19.685 -0.9,-19.42 -0.9,-18.68 -0.635,-18.415 ; -0.635,-19.685 0.635,-19.685 ; -0.635,-18.415 -0.9,-18.15 -0.9,-17.41 -0.635,-17.145 ; -0.635,-18.415 0.635,-18.415 ; -0.635,-17.145 -0.9,-16.88 -0.9,-16.14 -0.635,-15.875 ; -0.635,-17.145 0.635,-17.145 ; -0.635,-15.875 -0.9,-15.61 -0.9,-14.87 -0.635,-14.605 ; -0.635,-15.875 0.635,-15.875 ; -0.635,-14.605 -0.9,-14.34 -0.9,-13.6 -0.635,-13.335 ; -0.635,-14.605 0.635,-14.605 ; -0.635,-13.335 -0.9,-13.07 -0.9,-12.33 -0.635,-12.065 ; -0.635,-13.335 0.635,-13.335 ; -0.635,-12.065 -0.9,-11.8 -0.9,-11.06 -0.635,-10.795 ; -0.635,-12.065 0.635,-12.065 ; -0.635,-10.795 -0.9,-10.53 -0.9,-9.79 -0.635,-9.525 ; -0.635,-10.795 0.635,-10.795 ; -0.635,-9.525 -0.9,-9.26 -0.9,-8.52 -0.635,-8.255 ; -0.635,-9.525 0.635,-9.525 ; -0.635,-8.255 0.635,-8.255 ; -0.635,-8.255 -0.9,-7.99 -0.9,-7.25 -0.635,-6.985 ; -0.635,-8.255 0.635,-8.255 ; -0.635,-6.985 0.635,-6.985 ; -0.635,-6.985 -0.9,-6.72 -0.9,-5.98 -0.635,-5.715 ; -0.635,-6.985 0.635,-6.985 ; -0.635,-5.715 0.635,-5.715 ; -0.635,-5.715 -0.9,-5.45 -0.9,-4.71 -0.635,-4.445 ; -0.635,-5.715 0.635,-5.715 ; -0.635,-4.445 0.635,-4.445 ; -0.635,-4.445 -0.9,-4.18 -0.9,-3.44 -0.635,-3.175 ; -0.635,-4.445 0.635,-4.445 ; -0.635,-3.175 0.635,-3.175 ; -0.635,-3.175 -0.9,-2.91 -0.9,-2.17 -0.635,-1.905 ; -0.635,-3.175 0.635,-3.175 ; -0.635,-1.905 0.635,-1.905 ; -0.635,-1.905 -0.9,-1.64 -0.9,-0.9 -0.635,-0.635 ; -0.635,-1.905 0.635,-1.905 ; -0.635,-0.635 0.635,-0.635 ; -0.635,-0.635 -0.9,-0.37 -0.9,0.37 -0.635,0.635 0.635,0.635 0.9,0.37 0.9,-0.37 0.635,-0.635 ; -0.635,-0.635 0.635,-0.635 ; 0.635,-23.495 0.9,-23.23 0.9,-22.49 0.635,-22.225 ; 0.635,-22.225 0.9,-21.96 0.9,-21.22 0.635,-20.955 ; 0.635,-20.955 0.9,-20.69 0.9,-19.95 0.635,-19.685 ; 0.635,-19.685 0.9,-19.42 0.9,-18.68 0.635,-18.415 ; 0.635,-18.415 0.9,-18.15 0.9,-17.41 0.635,-17.145 ; 0.635,-17.145 0.9,-16.88 0.9,-16.14 0.635,-15.875 ; 0.635,-15.875 0.9,-15.61 0.9,-14.87 0.635,-14.605 ; 0.635,-14.605 0.9,-14.34 0.9,-13.6 0.635,-13.335 ; 0.635,-13.335 0.9,-13.07 0.9,-12.33 0.635,-12.065 ; 0.635,-12.065 0.9,-11.8 0.9,-11.06 0.635,-10.795 ; 0.635,-10.795 0.9,-10.53 0.9,-9.79 0.635,-9.525 ; 0.635,-9.525 0.9,-9.26 0.9,-8.52 0.635,-8.255 ; 0.635,-8.255 0.9,-7.99 0.9,-7.25 0.635,-6.985 ; 0.635,-6.985 0.9,-6.72 0.9,-5.98 0.635,-5.715 ; 0.635,-5.715 0.9,-5.45 0.9,-4.71 0.635,-4.445 ; 0.635,-4.445 0.9,-4.18 0.9,-3.44 0.635,-3.175 ; 0.635,-3.175 0.9,-2.91 0.9,-2.17 0.635,-1.905 ; 0.635,-1.905 0.9,-1.64 0.9,-0.9 0.635,-0.635
3D body: height 2, standoff 0, extent -0.9,-24.765 0.9,-23.495
3D body: height 10, standoff -3, extent -0.2,-24.33 0.2,-23.93
3D body: height 2, standoff 0, extent -0.9,-23.495 0.9,-22.225
3D body: height 10, standoff -3, extent -0.2,-23.06 0.2,-22.66
3D body: height 2, standoff 0, extent -0.9,-22.225 0.9,-20.955
3D body: height 10, standoff -3, extent -0.2,-21.79 0.2,-21.39
3D body: height 2, standoff 0, extent -0.9,-20.955 0.9,-19.685
3D body: height 10, standoff -3, extent -0.2,-20.52 0.2,-20.12
3D body: height 2, standoff 0, extent -0.9,-19.685 0.9,-18.415
3D body: height 10, standoff -3, extent -0.2,-19.25 0.2,-18.85
3D body: height 2, standoff 0, extent -0.9,-18.415 0.9,-17.145
3D body: height 10, standoff -3, extent -0.2,-17.98 0.2,-17.58
3D body: height 2, standoff 0, extent -0.9,-17.145 0.9,-15.875
3D body: height 10, standoff -3, extent -0.2,-16.71 0.2,-16.31
3D body: height 2, standoff 0, extent -0.9,-15.875 0.9,-14.605
3D body: height 10, standoff -3, extent -0.2,-15.44 0.2,-15.04
3D body: height 2, standoff 0, extent -0.9,-14.605 0.9,-13.335
3D body: height 10, standoff -3, extent -0.2,-14.17 0.2,-13.77
3D body: height 2, standoff 0, extent -0.9,-13.335 0.9,-12.065
3D body: height 10, standoff -3, extent -0.2,-12.9 0.2,-12.5
3D body: height 2, standoff 0, extent -0.9,-12.065 0.9,-10.795
3D body: height 10, standoff -3, extent -0.2,-11.63 0.2,-11.23
3D body: height 10, standoff -3, extent -0.2,-0.2 0.2,0.2
3D body: height 2, standoff 0, extent -0.9,-0.635 0.9,0.635
3D body: height 10, standoff -3, extent -0.2,-1.47 0.2,-1.07
3D body: height 2, standoff 0, extent -0.9,-1.905 0.9,-0.635
3D body: height 10, standoff -3, extent -0.2,-2.74 0.2,-2.34
3D body: height 2, standoff 0, extent -0.9,-3.175 0.9,-1.905
3D body: height 10, standoff -3, extent -0.2,-4.01 0.2,-3.61
3D body: height 2, standoff 0, extent -0.9,-4.445 0.9,-3.175
3D body: height 10, standoff -3, extent -0.2,-5.28 0.2,-4.88
3D body: height 2, standoff 0, extent -0.9,-5.715 0.9,-4.445
3D body: height 10, standoff -3, extent -0.2,-6.55 0.2,-6.15
3D body: height 2, standoff 0, extent -0.9,-6.985 0.9,-5.715
3D body: height 10, standoff -3, extent -0.2,-7.82 0.2,-7.42
3D body: height 2, standoff 0, extent -0.9,-8.255 0.9,-6.985
3D body: height 2, standoff 0, extent -0.9,-9.525 0.9,-8.255
3D body: height 10, standoff -3, extent -0.2,-9.09 0.2,-8.69
3D body: height 2, standoff 0, extent -0.9,-10.795 0.9,-9.525
3D body: height 10, standoff -3, extent -0.2,-10.36 0.2,-9.96

## HEAD_127_1X21 [mm] "Header 1.27mm 1x21"
pads (21):
  round 1.05 hole 0.65: 1(0,0) 2(0,-1.27) 3(0,-2.54) 4(0,-3.81) 5(0,-5.08) 6(0,-6.35) 7(0,-7.62) 8(0,-8.89) 9(0,-10.16) 10(0,-11.43) 11(0,-12.7) 12(0,-13.97) 13(0,-15.24) 14(0,-16.51) 15(0,-17.78) 16(0,-19.05) 17(0,-20.32) 18(0,-21.59) 19(0,-22.86) 20(0,-24.13) 21(0,-25.4)
Top Overlay:
  lines w0.2: -0.635,-26.035 -0.9,-25.77 -0.9,-25.03 -0.635,-24.765 -0.9,-24.5 -0.9,-23.76 -0.635,-23.495 -0.9,-23.23 -0.9,-22.49 -0.635,-22.225 -0.9,-21.96 -0.9,-21.22 -0.635,-20.955 -0.9,-20.69 -0.9,-19.95 -0.635,-19.685 -0.9,-19.42 -0.9,-18.68 -0.635,-18.415 -0.9,-18.15 -0.9,-17.41 -0.635,-17.145 -0.9,-16.88 -0.9,-16.14 -0.635,-15.875 -0.9,-15.61 -0.9,-14.87 -0.635,-14.605 -0.9,-14.34 -0.9,-13.6 -0.635,-13.335 -0.9,-13.07 -0.9,-12.33 -0.635,-12.065 -0.9,-11.8 -0.9,-11.06 -0.635,-10.795 -0.9,-10.53 -0.9,-9.79 -0.635,-9.525 -0.9,-9.26 -0.9,-8.52 -0.635,-8.255 -0.9,-7.99 -0.9,-7.25 -0.635,-6.985 -0.9,-6.72 -0.9,-5.98 -0.635,-5.715 -0.9,-5.45 -0.9,-4.71 -0.635,-4.445 -0.9,-4.18 -0.9,-3.44 -0.635,-3.175 -0.9,-2.91 -0.9,-2.17 -0.635,-1.905 -0.9,-1.64 -0.9,-0.9 -0.635,-0.635 -0.9,-0.37 -0.9,0.37 -0.635,0.635 ; 0.635,-26.035 0.9,-25.77 0.9,-25.03 0.635,-24.765 0.9,-24.5 0.9,-23.76 0.635,-23.495 0.9,-23.23 0.9,-22.49 0.635,-22.225 0.9,-21.96 0.9,-21.22 0.635,-20.955 0.9,-20.69 0.9,-19.95 0.635,-19.685 0.9,-19.42 0.9,-18.68 0.635,-18.415 0.9,-18.15 0.9,-17.41 0.635,-17.145 0.9,-16.88 0.9,-16.14 0.635,-15.875 0.9,-15.61 0.9,-14.87 0.635,-14.605 0.9,-14.34 0.9,-13.6 0.635,-13.335 0.9,-13.07 0.9,-12.33 0.635,-12.065 0.9,-11.8 0.9,-11.06 0.635,-10.795 0.9,-10.53 0.9,-9.79 0.635,-9.525 0.9,-9.26 0.9,-8.52 0.635,-8.255 0.9,-7.99 0.9,-7.25 0.635,-6.985 0.9,-6.72 0.9,-5.98 0.635,-5.715 0.9,-5.45 0.9,-4.71 0.635,-4.445 0.9,-4.18 0.9,-3.44 0.635,-3.175 0.9,-2.91 0.9,-2.17 0.635,-1.905 0.9,-1.64 0.9,-0.9 0.635,-0.635 0.9,-0.37 0.9,0.37 0.635,0.635
  text "1" at -0.642,1.636 h2
Bottom Overlay:
  text "1" at -0.642,0.864 h2
Top Assembly:
  drawing of 155 lines, arcs and shapes, not listed
3D body: height 2, standoff 0, extent -0.9,-26.035 0.9,-24.765
3D body: height 10, standoff -3, extent -0.2,-25.6 0.2,-25.2
3D body: height 2, standoff 0, extent -0.9,-24.765 0.9,-23.495
3D body: height 10, standoff -3, extent -0.2,-24.33 0.2,-23.93
3D body: height 2, standoff 0, extent -0.9,-23.495 0.9,-22.225
3D body: height 10, standoff -3, extent -0.2,-23.06 0.2,-22.66
3D body: height 2, standoff 0, extent -0.9,-22.225 0.9,-20.955
3D body: height 10, standoff -3, extent -0.2,-21.79 0.2,-21.39
3D body: height 2, standoff 0, extent -0.9,-20.955 0.9,-19.685
3D body: height 10, standoff -3, extent -0.2,-20.52 0.2,-20.12
3D body: height 2, standoff 0, extent -0.9,-19.685 0.9,-18.415
3D body: height 10, standoff -3, extent -0.2,-19.25 0.2,-18.85
3D body: height 2, standoff 0, extent -0.9,-18.415 0.9,-17.145
3D body: height 10, standoff -3, extent -0.2,-17.98 0.2,-17.58
3D body: height 2, standoff 0, extent -0.9,-17.145 0.9,-15.875
3D body: height 10, standoff -3, extent -0.2,-16.71 0.2,-16.31
3D body: height 2, standoff 0, extent -0.9,-15.875 0.9,-14.605
3D body: height 10, standoff -3, extent -0.2,-15.44 0.2,-15.04
3D body: height 2, standoff 0, extent -0.9,-14.605 0.9,-13.335
3D body: height 10, standoff -3, extent -0.2,-14.17 0.2,-13.77
3D body: height 2, standoff 0, extent -0.9,-13.335 0.9,-12.065
3D body: height 10, standoff -3, extent -0.2,-12.9 0.2,-12.5
3D body: height 2, standoff 0, extent -0.9,-12.065 0.9,-10.795
3D body: height 10, standoff -3, extent -0.2,-11.63 0.2,-11.23
3D body: height 10, standoff -3, extent -0.2,-0.2 0.2,0.2
3D body: height 2, standoff 0, extent -0.9,-0.635 0.9,0.635
3D body: height 10, standoff -3, extent -0.2,-1.47 0.2,-1.07
3D body: height 2, standoff 0, extent -0.9,-1.905 0.9,-0.635
3D body: height 10, standoff -3, extent -0.2,-2.74 0.2,-2.34
3D body: height 2, standoff 0, extent -0.9,-3.175 0.9,-1.905
3D body: height 10, standoff -3, extent -0.2,-4.01 0.2,-3.61
3D body: height 2, standoff 0, extent -0.9,-4.445 0.9,-3.175
3D body: height 10, standoff -3, extent -0.2,-5.28 0.2,-4.88
3D body: height 2, standoff 0, extent -0.9,-5.715 0.9,-4.445
3D body: height 10, standoff -3, extent -0.2,-6.55 0.2,-6.15
3D body: height 2, standoff 0, extent -0.9,-6.985 0.9,-5.715
3D body: height 10, standoff -3, extent -0.2,-7.82 0.2,-7.42
3D body: height 2, standoff 0, extent -0.9,-8.255 0.9,-6.985
3D body: height 2, standoff 0, extent -0.9,-9.525 0.9,-8.255
3D body: height 10, standoff -3, extent -0.2,-9.09 0.2,-8.69
3D body: height 2, standoff 0, extent -0.9,-10.795 0.9,-9.525
3D body: height 10, standoff -3, extent -0.2,-10.36 0.2,-9.96

## HEAD_127_1X22 [mm] "Header 1.27mm 1x22"
pads (22):
  round 1.05 hole 0.65: 1(0,0) 2(0,-1.27) 3(0,-2.54) 4(0,-3.81) 5(0,-5.08) 6(0,-6.35) 7(0,-7.62) 8(0,-8.89) 9(0,-10.16) 10(0,-11.43) 11(0,-12.7) 12(0,-13.97) 13(0,-15.24) 14(0,-16.51) 15(0,-17.78) 16(0,-19.05) 17(0,-20.32) 18(0,-21.59) 19(0,-22.86) 20(0,-24.13) 21(0,-25.4) 22(0,-26.67)
Top Overlay:
  lines w0.2: -0.635,-27.305 -0.9,-27.04 -0.9,-26.3 -0.635,-26.035 -0.9,-25.77 -0.9,-25.03 -0.635,-24.765 -0.9,-24.5 -0.9,-23.76 -0.635,-23.495 -0.9,-23.23 -0.9,-22.49 -0.635,-22.225 -0.9,-21.96 -0.9,-21.22 -0.635,-20.955 -0.9,-20.69 -0.9,-19.95 -0.635,-19.685 -0.9,-19.42 -0.9,-18.68 -0.635,-18.415 -0.9,-18.15 -0.9,-17.41 -0.635,-17.145 -0.9,-16.88 -0.9,-16.14 -0.635,-15.875 -0.9,-15.61 -0.9,-14.87 -0.635,-14.605 -0.9,-14.34 -0.9,-13.6 -0.635,-13.335 -0.9,-13.07 -0.9,-12.33 -0.635,-12.065 -0.9,-11.8 -0.9,-11.06 -0.635,-10.795 -0.9,-10.53 -0.9,-9.79 -0.635,-9.525 -0.9,-9.26 -0.9,-8.52 -0.635,-8.255 -0.9,-7.99 -0.9,-7.25 -0.635,-6.985 -0.9,-6.72 -0.9,-5.98 -0.635,-5.715 -0.9,-5.45 -0.9,-4.71 -0.635,-4.445 -0.9,-4.18 -0.9,-3.44 -0.635,-3.175 -0.9,-2.91 -0.9,-2.17 -0.635,-1.905 -0.9,-1.64 -0.9,-0.9 -0.635,-0.635 -0.9,-0.37 -0.9,0.37 -0.635,0.635 ; 0.635,-27.305 0.9,-27.04 0.9,-26.3 0.635,-26.035 0.9,-25.77 0.9,-25.03 0.635,-24.765 0.9,-24.5 0.9,-23.76 0.635,-23.495 0.9,-23.23 0.9,-22.49 0.635,-22.225 0.9,-21.96 0.9,-21.22 0.635,-20.955 0.9,-20.69 0.9,-19.95 0.635,-19.685 0.9,-19.42 0.9,-18.68 0.635,-18.415 0.9,-18.15 0.9,-17.41 0.635,-17.145 0.9,-16.88 0.9,-16.14 0.635,-15.875 0.9,-15.61 0.9,-14.87 0.635,-14.605 0.9,-14.34 0.9,-13.6 0.635,-13.335 0.9,-13.07 0.9,-12.33 0.635,-12.065 0.9,-11.8 0.9,-11.06 0.635,-10.795 0.9,-10.53 0.9,-9.79 0.635,-9.525 0.9,-9.26 0.9,-8.52 0.635,-8.255 0.9,-7.99 0.9,-7.25 0.635,-6.985 0.9,-6.72 0.9,-5.98 0.635,-5.715 0.9,-5.45 0.9,-4.71 0.635,-4.445 0.9,-4.18 0.9,-3.44 0.635,-3.175 0.9,-2.91 0.9,-2.17 0.635,-1.905 0.9,-1.64 0.9,-0.9 0.635,-0.635 0.9,-0.37 0.9,0.37 0.635,0.635
  text "1" at -0.642,1.636 h2
Bottom Overlay:
  text "1" at -0.642,0.864 h2
Top Assembly:
  drawing of 162 lines, arcs and shapes, not listed
3D body: height 2, standoff 0, extent -0.9,-27.305 0.9,-26.035
3D body: height 10, standoff -3, extent -0.2,-26.87 0.2,-26.47
3D body: height 2, standoff 0, extent -0.9,-26.035 0.9,-24.765
3D body: height 10, standoff -3, extent -0.2,-25.6 0.2,-25.2
3D body: height 2, standoff 0, extent -0.9,-24.765 0.9,-23.495
3D body: height 10, standoff -3, extent -0.2,-24.33 0.2,-23.93
3D body: height 2, standoff 0, extent -0.9,-23.495 0.9,-22.225
3D body: height 10, standoff -3, extent -0.2,-23.06 0.2,-22.66
3D body: height 2, standoff 0, extent -0.9,-22.225 0.9,-20.955
3D body: height 10, standoff -3, extent -0.2,-21.79 0.2,-21.39
3D body: height 2, standoff 0, extent -0.9,-20.955 0.9,-19.685
3D body: height 10, standoff -3, extent -0.2,-20.52 0.2,-20.12
3D body: height 2, standoff 0, extent -0.9,-19.685 0.9,-18.415
3D body: height 10, standoff -3, extent -0.2,-19.25 0.2,-18.85
3D body: height 2, standoff 0, extent -0.9,-18.415 0.9,-17.145
3D body: height 10, standoff -3, extent -0.2,-17.98 0.2,-17.58
3D body: height 2, standoff 0, extent -0.9,-17.145 0.9,-15.875
3D body: height 10, standoff -3, extent -0.2,-16.71 0.2,-16.31
3D body: height 2, standoff 0, extent -0.9,-15.875 0.9,-14.605
3D body: height 10, standoff -3, extent -0.2,-15.44 0.2,-15.04
3D body: height 2, standoff 0, extent -0.9,-14.605 0.9,-13.335
3D body: height 10, standoff -3, extent -0.2,-14.17 0.2,-13.77
3D body: height 2, standoff 0, extent -0.9,-13.335 0.9,-12.065
3D body: height 10, standoff -3, extent -0.2,-12.9 0.2,-12.5
3D body: height 2, standoff 0, extent -0.9,-12.065 0.9,-10.795
3D body: height 10, standoff -3, extent -0.2,-11.63 0.2,-11.23
3D body: height 10, standoff -3, extent -0.2,-0.2 0.2,0.2
3D body: height 2, standoff 0, extent -0.9,-0.635 0.9,0.635
3D body: height 10, standoff -3, extent -0.2,-1.47 0.2,-1.07
3D body: height 2, standoff 0, extent -0.9,-1.905 0.9,-0.635
3D body: height 10, standoff -3, extent -0.2,-2.74 0.2,-2.34
3D body: height 2, standoff 0, extent -0.9,-3.175 0.9,-1.905
3D body: height 10, standoff -3, extent -0.2,-4.01 0.2,-3.61
3D body: height 2, standoff 0, extent -0.9,-4.445 0.9,-3.175
3D body: height 10, standoff -3, extent -0.2,-5.28 0.2,-4.88
3D body: height 2, standoff 0, extent -0.9,-5.715 0.9,-4.445
3D body: height 10, standoff -3, extent -0.2,-6.55 0.2,-6.15
3D body: height 2, standoff 0, extent -0.9,-6.985 0.9,-5.715
3D body: height 10, standoff -3, extent -0.2,-7.82 0.2,-7.42
3D body: height 2, standoff 0, extent -0.9,-8.255 0.9,-6.985
3D body: height 2, standoff 0, extent -0.9,-9.525 0.9,-8.255
3D body: height 10, standoff -3, extent -0.2,-9.09 0.2,-8.69
3D body: height 2, standoff 0, extent -0.9,-10.795 0.9,-9.525
3D body: height 10, standoff -3, extent -0.2,-10.36 0.2,-9.96

## HEAD_127_1X23 [mm] "Header 1.27mm 1x23"
pads (23):
  round 1.05 hole 0.65: 1(0,0) 2(0,-1.27) 3(0,-2.54) 4(0,-3.81) 5(0,-5.08) 6(0,-6.35) 7(0,-7.62) 8(0,-8.89) 9(0,-10.16) 10(0,-11.43) 11(0,-12.7) 12(0,-13.97) 13(0,-15.24) 14(0,-16.51) 15(0,-17.78) 16(0,-19.05) 17(0,-20.32) 18(0,-21.59) 19(0,-22.86) 20(0,-24.13) 21(0,-25.4) 22(0,-26.67) 23(0,-27.94)
Top Overlay:
  lines w0.2: -0.635,-28.575 -0.9,-28.31 -0.9,-27.57 -0.635,-27.305 -0.9,-27.04 -0.9,-26.3 -0.635,-26.035 -0.9,-25.77 -0.9,-25.03 -0.635,-24.765 -0.9,-24.5 -0.9,-23.76 -0.635,-23.495 -0.9,-23.23 -0.9,-22.49 -0.635,-22.225 -0.9,-21.96 -0.9,-21.22 -0.635,-20.955 -0.9,-20.69 -0.9,-19.95 -0.635,-19.685 -0.9,-19.42 -0.9,-18.68 -0.635,-18.415 -0.9,-18.15 -0.9,-17.41 -0.635,-17.145 -0.9,-16.88 -0.9,-16.14 -0.635,-15.875 -0.9,-15.61 -0.9,-14.87 -0.635,-14.605 -0.9,-14.34 -0.9,-13.6 -0.635,-13.335 -0.9,-13.07 -0.9,-12.33 -0.635,-12.065 -0.9,-11.8 -0.9,-11.06 -0.635,-10.795 -0.9,-10.53 -0.9,-9.79 -0.635,-9.525 -0.9,-9.26 -0.9,-8.52 -0.635,-8.255 -0.9,-7.99 -0.9,-7.25 -0.635,-6.985 -0.9,-6.72 -0.9,-5.98 -0.635,-5.715 -0.9,-5.45 -0.9,-4.71 -0.635,-4.445 -0.9,-4.18 -0.9,-3.44 -0.635,-3.175 -0.9,-2.91 -0.9,-2.17 -0.635,-1.905 -0.9,-1.64 -0.9,-0.9 -0.635,-0.635 -0.9,-0.37 -0.9,0.37 -0.635,0.635 ; 0.635,-28.575 0.9,-28.31 0.9,-27.57 0.635,-27.305 0.9,-27.04 0.9,-26.3 0.635,-26.035 0.9,-25.77 0.9,-25.03 0.635,-24.765 0.9,-24.5 0.9,-23.76 0.635,-23.495 0.9,-23.23 0.9,-22.49 0.635,-22.225 0.9,-21.96 0.9,-21.22 0.635,-20.955 0.9,-20.69 0.9,-19.95 0.635,-19.685 0.9,-19.42 0.9,-18.68 0.635,-18.415 0.9,-18.15 0.9,-17.41 0.635,-17.145 0.9,-16.88 0.9,-16.14 0.635,-15.875 0.9,-15.61 0.9,-14.87 0.635,-14.605 0.9,-14.34 0.9,-13.6 0.635,-13.335 0.9,-13.07 0.9,-12.33 0.635,-12.065 0.9,-11.8 0.9,-11.06 0.635,-10.795 0.9,-10.53 0.9,-9.79 0.635,-9.525 0.9,-9.26 0.9,-8.52 0.635,-8.255 0.9,-7.99 0.9,-7.25 0.635,-6.985 0.9,-6.72 0.9,-5.98 0.635,-5.715 0.9,-5.45 0.9,-4.71 0.635,-4.445 0.9,-4.18 0.9,-3.44 0.635,-3.175 0.9,-2.91 0.9,-2.17 0.635,-1.905 0.9,-1.64 0.9,-0.9 0.635,-0.635 0.9,-0.37 0.9,0.37 0.635,0.635
  text "1" at -0.642,1.636 h2
Bottom Overlay:
  text "1" at -0.642,0.864 h2
Top Assembly:
  drawing of 169 lines, arcs and shapes, not listed
3D body: height 2, standoff 0, extent -0.9,-28.575 0.9,-27.305
3D body: height 10, standoff -3, extent -0.2,-28.14 0.2,-27.74
3D body: height 2, standoff 0, extent -0.9,-27.305 0.9,-26.035
3D body: height 10, standoff -3, extent -0.2,-26.87 0.2,-26.47
3D body: height 2, standoff 0, extent -0.9,-26.035 0.9,-24.765
3D body: height 10, standoff -3, extent -0.2,-25.6 0.2,-25.2
3D body: height 2, standoff 0, extent -0.9,-24.765 0.9,-23.495
3D body: height 10, standoff -3, extent -0.2,-24.33 0.2,-23.93
3D body: height 2, standoff 0, extent -0.9,-23.495 0.9,-22.225
3D body: height 10, standoff -3, extent -0.2,-23.06 0.2,-22.66
3D body: height 2, standoff 0, extent -0.9,-22.225 0.9,-20.955
3D body: height 10, standoff -3, extent -0.2,-21.79 0.2,-21.39
3D body: height 2, standoff 0, extent -0.9,-20.955 0.9,-19.685
3D body: height 10, standoff -3, extent -0.2,-20.52 0.2,-20.12
3D body: height 2, standoff 0, extent -0.9,-19.685 0.9,-18.415
3D body: height 10, standoff -3, extent -0.2,-19.25 0.2,-18.85
3D body: height 2, standoff 0, extent -0.9,-18.415 0.9,-17.145
3D body: height 10, standoff -3, extent -0.2,-17.98 0.2,-17.58
3D body: height 2, standoff 0, extent -0.9,-17.145 0.9,-15.875
3D body: height 10, standoff -3, extent -0.2,-16.71 0.2,-16.31
3D body: height 2, standoff 0, extent -0.9,-15.875 0.9,-14.605
3D body: height 10, standoff -3, extent -0.2,-15.44 0.2,-15.04
3D body: height 2, standoff 0, extent -0.9,-14.605 0.9,-13.335
3D body: height 10, standoff -3, extent -0.2,-14.17 0.2,-13.77
3D body: height 2, standoff 0, extent -0.9,-13.335 0.9,-12.065
3D body: height 10, standoff -3, extent -0.2,-12.9 0.2,-12.5
3D body: height 2, standoff 0, extent -0.9,-12.065 0.9,-10.795
3D body: height 10, standoff -3, extent -0.2,-11.63 0.2,-11.23
3D body: height 10, standoff -3, extent -0.2,-0.2 0.2,0.2
3D body: height 2, standoff 0, extent -0.9,-0.635 0.9,0.635
3D body: height 10, standoff -3, extent -0.2,-1.47 0.2,-1.07
3D body: height 2, standoff 0, extent -0.9,-1.905 0.9,-0.635
3D body: height 10, standoff -3, extent -0.2,-2.74 0.2,-2.34
3D body: height 2, standoff 0, extent -0.9,-3.175 0.9,-1.905
3D body: height 10, standoff -3, extent -0.2,-4.01 0.2,-3.61
3D body: height 2, standoff 0, extent -0.9,-4.445 0.9,-3.175
3D body: height 10, standoff -3, extent -0.2,-5.28 0.2,-4.88
3D body: height 2, standoff 0, extent -0.9,-5.715 0.9,-4.445
3D body: height 10, standoff -3, extent -0.2,-6.55 0.2,-6.15
3D body: height 2, standoff 0, extent -0.9,-6.985 0.9,-5.715
3D body: height 10, standoff -3, extent -0.2,-7.82 0.2,-7.42
3D body: height 2, standoff 0, extent -0.9,-8.255 0.9,-6.985
3D body: height 2, standoff 0, extent -0.9,-9.525 0.9,-8.255
3D body: height 10, standoff -3, extent -0.2,-9.09 0.2,-8.69
3D body: height 2, standoff 0, extent -0.9,-10.795 0.9,-9.525
3D body: height 10, standoff -3, extent -0.2,-10.36 0.2,-9.96